# Altium footprint library Effects_PSU.PcbLib: 4 footprints
Each footprint in its own frame and in the unit in brackets; x right, y up, seen from the top. Pads: shape width x height; smd on the part's side, far side on the other; paste and mask are expansions set on the pad; w line width, h text height; cw(c..) or ccw(c..) is an arc to the next point about the centre after c.
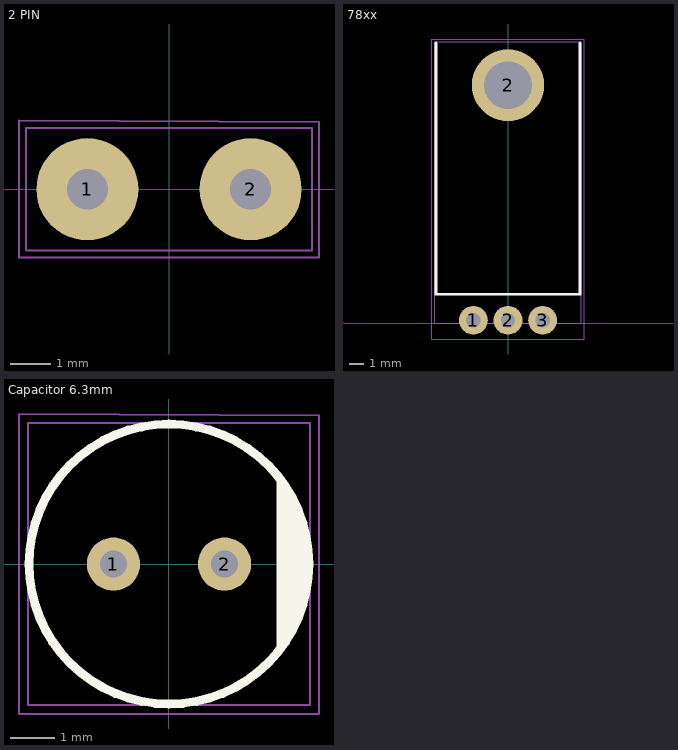
[diagram p0: the footprints below, top view; thin cyan lines are the x and y axes]

## 2 PIN [mm]
pads (2):
  round 2.5 hole 1 unplated: 1(-2,0) 2(2,0)
Outline:
  lines w0.05: -3.5,-1.5 -3.5,1.5 3.5,1.5 3.5,-1.5 -3.5,-1.5
Keep Out:
  lines w0.05: -3.675,-1.675 3.675,-1.675 3.675,1.65 -3.675,1.685 -3.675,-1.675

## 78xx [mm]
pads (4):
  round 2 hole 1 unplated: 1(-2.4,0.2) 2(0,0.2) 3(2.4,0.2)
  round 5 hole 3.3 unplated: 2(0,16.5)
Top Overlay:
  lines w0.2: -5,19.425 -5,12 -5,2 5,2 5,12 5,19.425
Outline:
  lines w0.05: -5.075,0 -5.075,19.5 5.075,19.5 5.075,0 -5.075,0
Keep Out:
  lines w0.05: -5.275,-1.1 -5.275,19.7 5.275,19.7 5.275,-1.1 -5.275,-1.1
3D body "TR Fastenings Ltd-M3X5MM.step": height 4.5, standoff -3.5, extent -2.75,13.75 2.75,19.25
3D body "CircuitWorks-TO-220.step": height 4.2, standoff -3, extent -5.08,0 5.08,19.49

## Capacitor 6.3mm [mm]
pads (2):
  round 1.2 hole 0.6 unplated: 1(-1.25,0) 2(1.25,0)
Top Overlay:
  circle w0.2: c0,0 r3.15
  lines w0.15: 2.5,1.9 2.5,-1.9 2.6,-1.8 2.6,1.6 ; 2.7,-1.6 2.7,1.4 ; 2.8,-1.4 2.8,1.2 ; 2.9,-1.2 2.9,1 ; 2.9,-0.9 3,-0.8 3,0.7
Outline:
  lines w0.05: -3.175,-3.175 3.175,-3.175 3.175,3.175 -3.175,3.175 -3.175,-3.175
Keep Out:
  lines w0.05: -3.375,-3.375 -3.375,3.378 3.375,3.346 3.375,-3.375 -3.375,-3.375
3D body "User Library-Cap electro 6_3x11x2_5mm.step": height 11.53, standoff -3.01, extent -3.175,-3.175 3.176,3.176

## Z76 [mm]